# Altium schematic symbol library TPD4E001.SchLib: 1 symbol
Pins are listed as number, name and electrical type; pins without a type are passive.

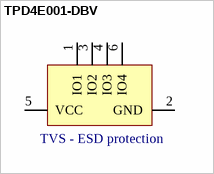
[diagram p0: symbol TPD4E001-DBV]

## TPD4E001-DBV
designator ?, comment TVS - ESD protection
footprint SO-G6/P.95 (SOT-457/SC-74; 6 Leads; Body 3.1 x 3 mm, inc. leads (LxW max))
pins: 1 IO1, 2 GND, 3 IO2, 4 IO3, 5 VCC, 6 IO4